# EAGLE library part AD8426 (library Eagle_CAD_parts)
Amplificadores de Instrumentación: 2 circuitos rail-to-rail
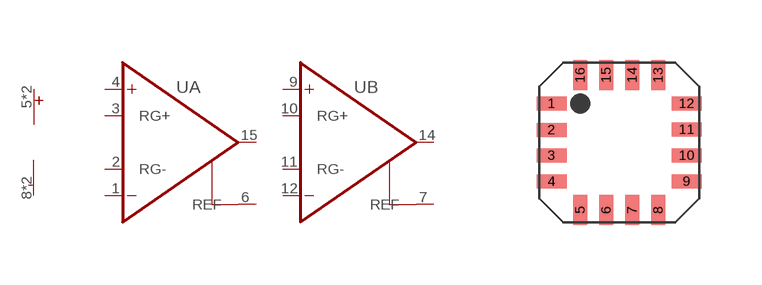
[diagram p74: symbol with the pads of CP_16_19; footprint CP_16_19]

Designator prefix U; gates A=OPAMP-INSTR B=OPAMP-INSTR SUP=ALIMENTACION

## AD8426 (DIGIKEY_PART_NUMBER: AD8426ACPZ-R7CT-ND; IBIAS: 20 nA; I_OUT: 13 mA; I_SUP: 350 uA; MANUFACTURER_PART_NUMBER: AD8426ACPZ-R7; VOS: 200 uV; V_SUP: 2.2 ~ 36 V; V_SUP_DUAL: 1.35 ~ 18 V)  [CP_16_19]
1  A:-IN  in
2  A:RG-
3  A:RG+
4  A:+IN  in
5  SUP:V+  pwr
6  A:REF
7  B:REF
8  SUP:V-  pwr
9  B:+IN  in
10  B:RG+
11  B:RG-
12  B:-IN  in
13  SUP:V-  pwr
14  B:OUT  oc
15  A:OUT  oc
16  SUP:V+  pwr

## Footprint CP_16_19 (pad centres in mm)
smd 0.75 x 0.35: 1 -1.69,0.975; 2 -1.69,0.315; 3 -1.69,-0.325; 4 -1.69,-0.975; 9 1.69,-0.975; 10 1.69,-0.325; 11 1.69,0.325; 12 1.69,0.975
smd 0.35 x 0.75: 5 -0.975,-1.69; 6 -0.325,-1.69; 7 0.325,-1.69; 8 0.975,-1.69; 13 0.975,1.69; 14 0.325,1.69; 15 -0.325,1.69; 16 -0.975,1.69